# EAGLE library part TLV5636 (library TLV5636)
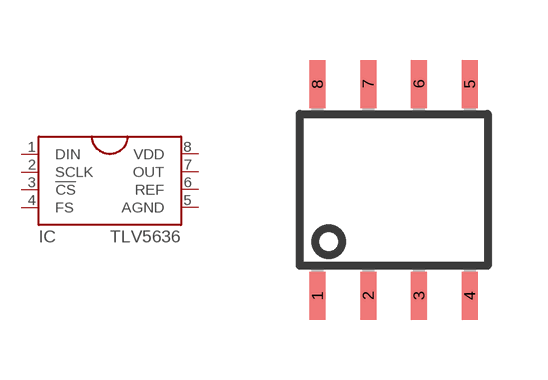
[diagram p0: symbol with the pads of SOIC8; footprint SOIC8]

Designator prefix IC

## TLV5636  [SOIC8]
1  DIN
2  SCLK
3  !CS!
4  FS
5  AGND
6  REF
7  OUT
8  VDD

## Footprint SOIC8 (pad centres in mm)
smd 0.4 x 1.2: 1 -1.905,-2.65; 2 -0.635,-2.65; 3 0.635,-2.65; 4 1.905,-2.65; 5 1.905,2.65; 6 0.635,2.65; 7 -0.635,2.65; 8 -1.905,2.65